# Altium schematic symbol library NSVR0170MX2WT5G.SchLib: 1 symbol
Pins are listed as number, name and electrical type; pins without a type are passive.

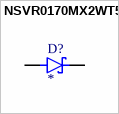
[diagram p0: symbol NSVR0170MX2WT5G]

## NSVR0170MX2WT5G
designator D?
Schottky Diodes & Rectifiers 70V, 100MA AND 40V, 200MA SCHOTTKY DIODES IN X2DFNW2-1.0X0.6MM
footprint DFN65P100X40-2N (DFN, 2-Leads, Body 0.60x1.00mm, Pitch 0.65mm, IPC Medium Density)
pins: 1 K, 2 A